# EAGLE library part STEPS_REV_B4_LAYOUT_PTH (library stepOSP)
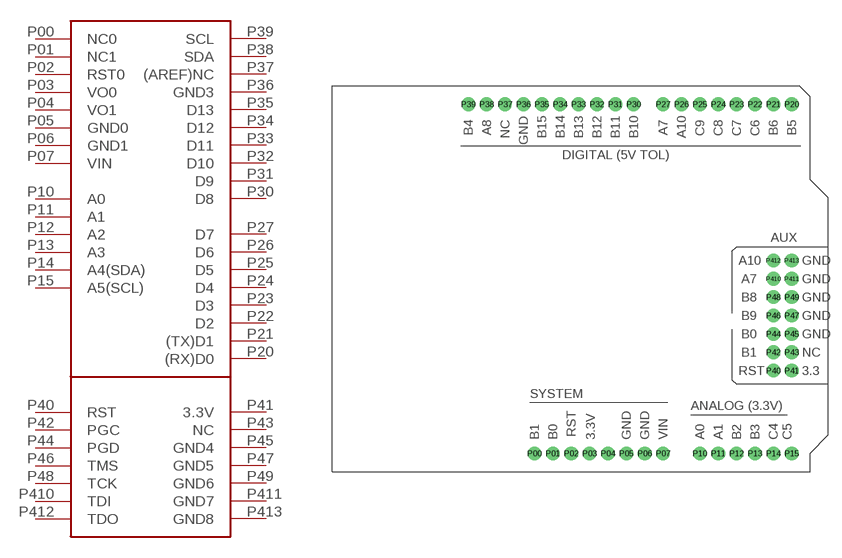
[diagram p36: symbol with the pads of STEPS_REV_B4_LAYOUT_PTH; footprint STEPS_REV_B4_LAYOUT_PTH]

Designator prefix -

## STEPS_REV_B4_LAYOUT_PTH  [STEPS_REV_B4_LAYOUT_PTH]
P00  NC0
P01  NC1
P02  RST0
P03  VO0
P04  VO1
P05  GND0
P06  GND1
P07  VIN
P10  A0
P11  A1
P12  A2
P13  A3
P14  A4(SDA)
P15  A5(SCL)
P20  (RX)D0
P21  (TX)D1
P22  D2
P23  D3
P24  D4
P25  D5
P26  D6
P27  D7
P30  D8
P31  D9
P32  D10
P33  D11
P34  D12
P35  D13
P36  GND3
P37  (AREF)NC
P38  SDA
P39  SCL
P40  RST
P41  3.3V
P42  PGC
P43  NC
P44  PGD
P45  GND4
P46  TMS
P47  GND5
P48  TCK
P49  GND6
P410  TDI
P411  GND7
P412  TDO
P413  GND8

## Footprint STEPS_REV_B4_LAYOUT_PTH (pad centres in mm)
drill 1.016 pad 1.88: P00 27.94,2.54; P01 30.48,2.54; P02 33.02,2.54; P03 35.56,2.54; P04 38.1,2.54; P05 40.64,2.54; P06 43.18,2.54; P07 45.72,2.54; P10 50.8,2.54; P11 53.34,2.54; P12 55.88,2.54; P13 58.42,2.54; P14 60.96,2.54; P15 63.5,2.54; P20 63.5,50.8; P21 60.96,50.8; P22 58.42,50.8; P23 55.88,50.8; P24 53.34,50.8; P25 50.8,50.8; P26 48.26,50.8; P27 45.72,50.8; P30 41.656,50.8; P31 39.116,50.8; P32 36.576,50.8; P33 34.036,50.8; P34 31.496,50.8; P35 28.956,50.8; P36 26.416,50.8; P37 23.876,50.8; P38 21.336,50.8; P39 18.796,50.8; P40 60.96,13.97; P41 63.5,13.97; P42 60.96,16.51; P43 63.5,16.51; P44 60.96,19.05; P45 63.5,19.05; P46 60.96,21.59; P47 63.5,21.59; P48 60.96,24.13; P49 63.5,24.13; P410 60.96,26.67; P411 63.5,26.67; P412 60.96,29.21; P413 63.5,29.21